# EAGLE library part MCP23S08-E_P (library MCP23S08-E_P)
8 Bit Expander Source: Datasheet <http://uk.rs-online.com/web/p/products/1445721>
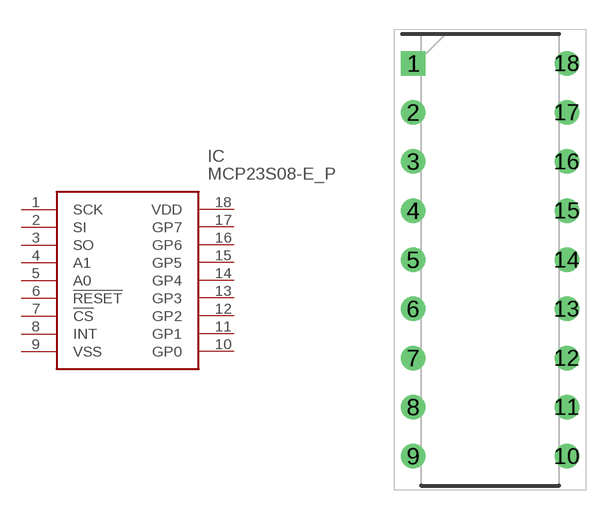
[diagram p0: symbol with the pads of DIP794W56P254L2286H533Q18N; footprint DIP794W56P254L2286H533Q18N]

Designator prefix IC

## MCP23S08-E_P (Arrow_Part_Number: MCP23S08-E/P; Arrow_Price-Stock: https://www.arrow.com/en/products/mcp23s08-ep/microchip-technology; Description: 8 Bit Expander; Height: 5.334mm; Manufacturer_Name: Microchip; Manufacturer_Part_Number: MCP23S08-E/P; Mouser_Part_Number: 579-MCP23S08-E/P; Mouser_Price-Stock: https://www.mouser.co.uk/ProductDetail/Microchip-Technology/MCP23S08-E-P/?qs=%2FsmpkzDYgMyi%252BLRInJoBRg%3D%3D)  [DIP794W56P254L2286H533Q18N]
1  SCK
2  SI
3  SO
4  A1
5  A0
6  !RESET
7  !CS
8  INT
9  VSS
10  GP0
11  GP1
12  GP2
13  GP3
14  GP4
15  GP5
16  GP6
17  GP7
18  VDD

## Footprint DIP794W56P254L2286H533Q18N (pad centres in mm)
18-Lead Plastic Dual In-Line (P) - 300 mil Body [PDIP]
drill 0.759 pad 1.159 square: 1 -3.969,10.16
drill 0.759 pad 1.159: 2 -3.969,7.62; 3 -3.969,5.08; 4 -3.969,2.54; 5 -3.969,0; 6 -3.969,-2.54; 7 -3.969,-5.08; 8 -3.969,-7.62; 9 -3.969,-10.16; 10 3.969,-10.16; 11 3.969,-7.62; 12 3.969,-5.08; 13 3.969,-2.54; 14 3.969,0; 15 3.969,2.54; 16 3.969,5.08; 17 3.969,7.62; 18 3.969,10.16